# EAGLE library part TEENSY-3.2-BREAKOUT-REV-D (library Teensy-Breakout-Eagle-Library)
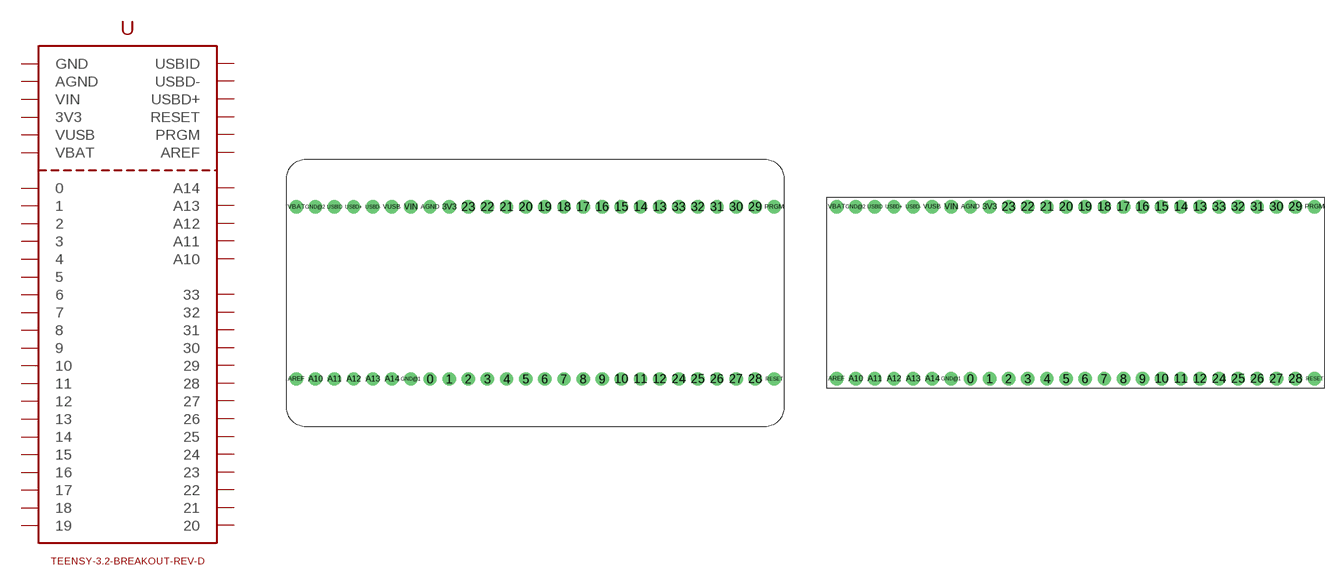
[diagram p8: symbol with the pads of TEENSY-3.2-BREAKOUT-REV-D-RAILS; footprints TEENSY-3.2-BREAKOUT-REV-D-RAILS, TEENSY-3.2-BREAKOUT-REV-D-NO-RAILS]

Designator prefix -

## TEENSY-3.2-BREAKOUT-REV-D-RAILS  [TEENSY-3.2-BREAKOUT-REV-D-RAILS]
0  0
1  1
2  2
3  3
3V3  3V3
4  4
5  5
6  6
7  7
8  8
9  9
10  10
11  11
12  12
13  13
14  14
15  15
16  16
17  17
18  18
19  19
20  20
21  21
22  22
23  23
24  24
25  25
26  26
27  27
28  28
29  29
30  30
31  31
32  32
33  33
A10  A10
A11  A11
A12  A12
A13  A13
A14  A14
AGND  AGND
AREF  AREF
GND@1  GND
GND@2  GND
PRGM  PRGM
RESET  RESET
USBD+  USBD+
USBD-  USBD-
USBID  USBID
VBAT  VBAT
VIN  VIN
VUSB  VUSB

## TEENSY-3.2-BREAKOUT-REV-D-NO-RAILS  [TEENSY-3.2-BREAKOUT-REV-D-NO-RAILS]
Pads as for TEENSY-3.2-BREAKOUT-REV-D-RAILS

## Footprint TEENSY-3.2-BREAKOUT-REV-D-RAILS (pad centres in mm)
drill 1.016 pad 1.778: 0 19.05,6.35; 1 21.59,6.35; 2 24.13,6.35; 3 26.67,6.35; 3V3 21.59,29.21; 4 29.21,6.35; 5 31.75,6.35; 6 34.29,6.35; 7 36.83,6.35; 8 39.37,6.35; 9 41.91,6.35; 10 44.45,6.35; 11 46.99,6.35; 12 49.53,6.35; 13 49.53,29.21; 14 46.99,29.21; 15 44.45,29.21; 16 41.91,29.21; 17 39.37,29.21; 18 36.83,29.21; 19 34.29,29.21; 20 31.75,29.21; 21 29.21,29.21; 22 26.67,29.21; 23 24.13,29.21; 24 52.07,6.35; 25 54.61,6.35; 26 57.15,6.35; 27 59.69,6.35; 28 62.23,6.35; 29 62.23,29.21; 30 59.69,29.21; 31 57.15,29.21; 32 54.61,29.21; 33 52.07,29.21; A10 3.81,6.35; A11 6.35,6.35; A12 8.89,6.35; A13 11.43,6.35; A14 13.97,6.35; AGND 19.05,29.21; AREF 1.27,6.35; GND@1 16.51,6.35; GND@2 3.81,29.21; PRGM 64.77,29.21; RESET 64.77,6.35; USBD+ 8.89,29.21; USBD- 11.43,29.21; USBID 6.35,29.21; VBAT 1.27,29.21; VIN 16.51,29.21; VUSB 13.97,29.21

## Footprint TEENSY-3.2-BREAKOUT-REV-D-NO-RAILS (pad centres in mm)
drill 1.016 pad 1.778: 0 19.05,1.27; 1 21.59,1.27; 2 24.13,1.27; 3 26.67,1.27; 3V3 21.59,24.13; 4 29.21,1.27; 5 31.75,1.27; 6 34.29,1.27; 7 36.83,1.27; 8 39.37,1.27; 9 41.91,1.27; 10 44.45,1.27; 11 46.99,1.27; 12 49.53,1.27; 13 49.53,24.13; 14 46.99,24.13; 15 44.45,24.13; 16 41.91,24.13; 17 39.37,24.13; 18 36.83,24.13; 19 34.29,24.13; 20 31.75,24.13; 21 29.21,24.13; 22 26.67,24.13; 23 24.13,24.13; 24 52.07,1.27; 25 54.61,1.27; 26 57.15,1.27; 27 59.69,1.27; 28 62.23,1.27; 29 62.23,24.13; 30 59.69,24.13; 31 57.15,24.13; 32 54.61,24.13; 33 52.07,24.13; A10 3.81,1.27; A11 6.35,1.27; A12 8.89,1.27; A13 11.43,1.27; A14 13.97,1.27; AGND 19.05,24.13; AREF 1.27,1.27; GND@1 16.51,1.27; GND@2 3.81,24.13; PRGM 64.77,24.13; RESET 64.77,1.27; USBD+ 8.89,24.13; USBD- 11.43,24.13; USBID 6.35,24.13; VBAT 1.27,24.13; VIN 16.51,24.13; VUSB 13.97,24.13